# Altium footprint library Lab11.PcbLib: 4 footprints
Each footprint in its own frame and in the unit in brackets; x right, y up, seen from the top. Pads: shape width x height; smd on the part's side, far side on the other; paste and mask are expansions set on the pad; w line width, h text height; cw(c..) or ccw(c..) is an arc to the next point about the centre after c.
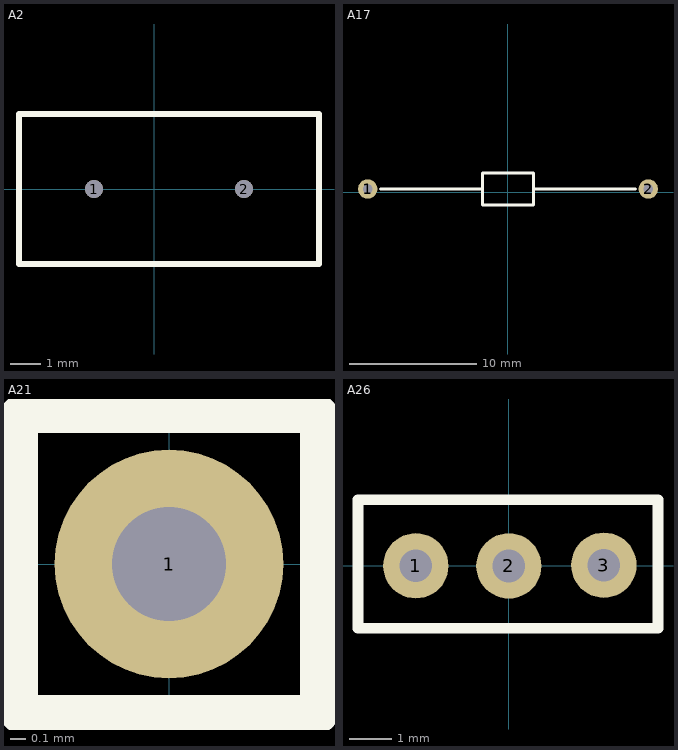
[diagram p0: the footprints below, top view; thin cyan lines are the x and y axes]

## A2 [mm]
height 6
pads (2):
  round 0.6 hole 0.6: 1(-2,0) 2(3,0)
Top Overlay:
  lines w0.2: -4.5,-2.5 -4.5,2.5 -2,2.5 3,2.5 5.5,2.5 5.5,-2.5 3,-2.5 -2,-2.5 -4.5,-2.5

## A17 [mil]
height 114.17
pads (2):
  round 60 hole 30: 1(-433.07,9.84) 2(433.07,9.84)
Top Overlay:
  lines w10: -393.7,9.84 -78.74,9.84 ; 78.74,9.84 393.7,9.84 ; -78.74,-39.37 -78.74,59.06 78.74,59.06 78.74,-39.37 -78.74,-39.37

## A21 [mil]
pads (1):
  round 60 hole 30: 1(0,0)
Top Overlay:
  lines w10: -39.37,-39.37 39.37,-39.37 39.37,39.37 -39.37,39.37 -39.37,-39.37

## A26 [mil]
height 590.55
pads (3):
  round 60 hole 30: 1(-85.43,0.08) 2(0,0) 3(87.29,0.68)
Top Overlay:
  lines w10: -138.57,-57.29 137.02,-57.29 137.02,60.82 -138.57,60.82 -138.57,-57.29